# Altium schematic symbol library F1C200S.SCHLIB: 36 symbols
Pins are listed as number, name and electrical type; pins without a type are passive.

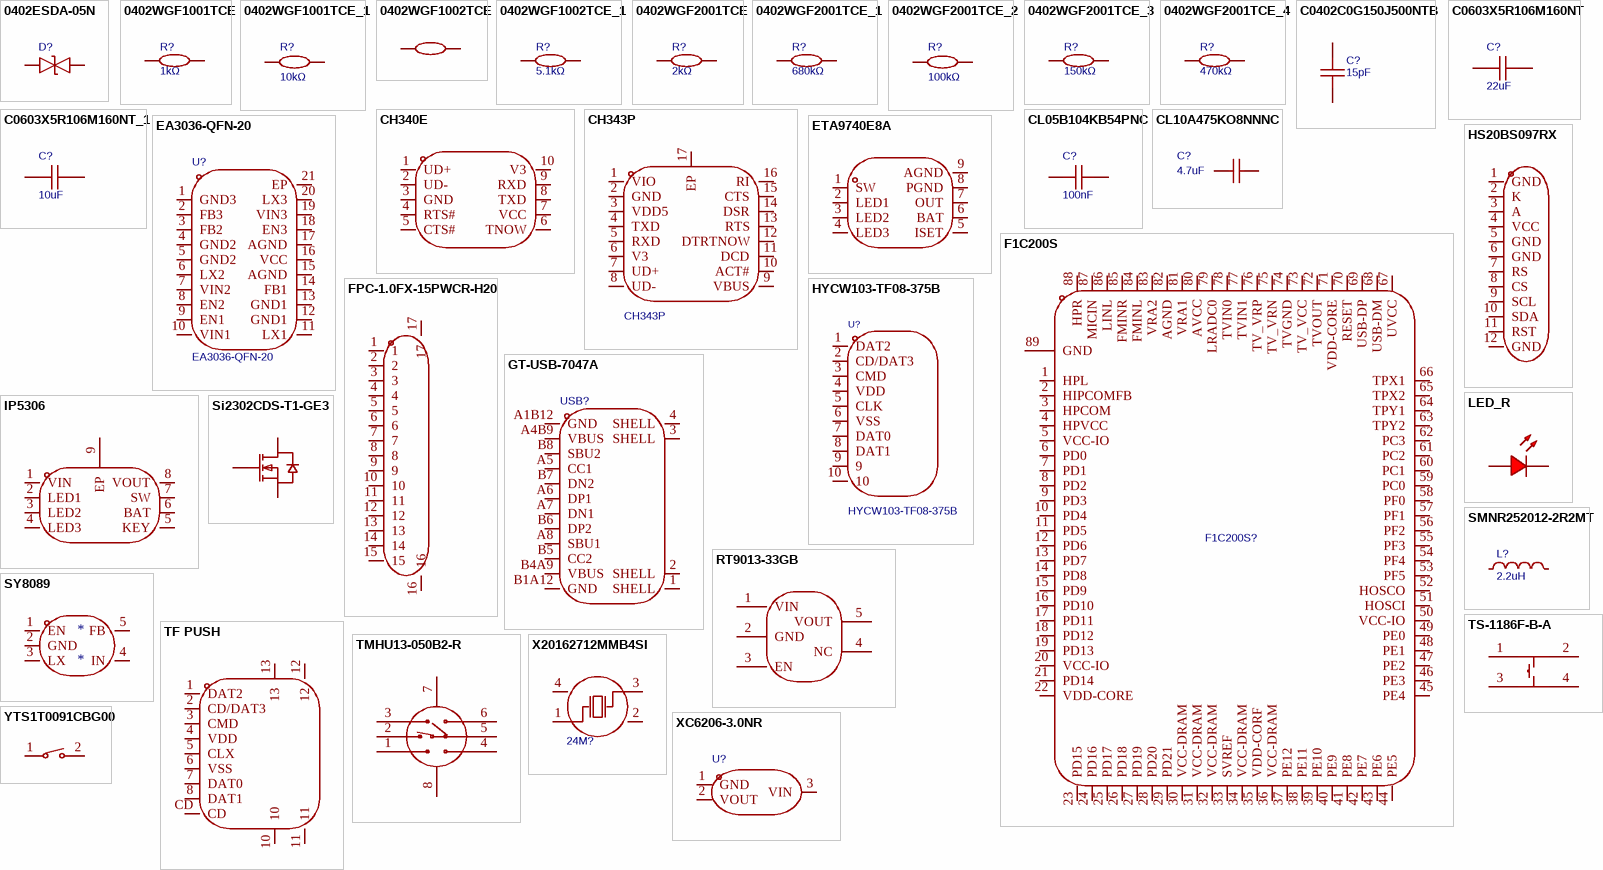
[diagram p0: symbols 0402ESDA-05N to YTS1T0091CBG00]

## 0402ESDA-05N
designator D?
极性:Bidirectional;反向关断电压（典型值）:5V;击穿电压（最小值）:-;箝位电压:50V;峰值脉冲电流（10/1000us）:-;; Manufacturer: BORN伯恩半导体; Symbol: 0402ESDA-05N; AddInBom: yes; ModelId: 62a80a189f1b46df8ba79817b730b378; ModelName: D0402_L1.0-W0.5-H0.5; ModelTransform: 39.37,19.685,0,180,0,0,-0.002,-0.0025,0; Voltage - Reverse Standoff (Typ): 5V; Voltage - Clamping (Max) @ Ipp: 50V; Device: 0402ESDA-05N; ConvertToPcb: yes; LCSC Part Name: 0402ESDA-05N; SupplierPart: C316049; ManufacturerPart: 0402ESDA-05N; Supplier Footprint: 0402; JLCPCB Part Class: 扩展库; Datasheet: https://atta.szlcsc.com/upload/public/pdf/source/20181026/C316049_37ABAC87650F175221BFB473159300DE.pdf; Supplier: LCSC; Polarity: Bidirectional; Voltage - Breakdown (Min): -; Current - Peak Pulse (10/1000μs): -; FootprintName: D0402
footprint D0402
pins: 1, 2

## 0402WGF1001TCE
designator R?, comment 1kΩ
电阻类型:厚膜电阻;阻值:1kΩ;精度:±1%;功率:62.5mW;温度系数:±100ppm/;最大工作电压:50V;工作温度范围:-55~+155;; Manufacturer: UNI-ROYAL(厚声); Symbol: 0402WGF1001TCE; AddInBom: yes; ModelId: 671aefced39d4c318694bba8bd8efd39; ModelName: R0402_L1.0-W0.5-H0.5; ModelTransform: 39.37,19.685,0,0,0,0,0,0.0005,0; Tolerance: ±1%; Power(Watts): 62.5mW; Overload Voltage (Max): 50V; Value: 1kΩ; Device: 0402WGF1001TCE; Temperature Coefficient: ±100ppm/; Operating Temperature Range: -55~+155; LCSC Part Name: 1kΩ ±1% 62.5mW; SupplierPart: C11702; ManufacturerPart: 0402WGF1001TCE; Supplier Footprint: 0402; JLCPCB Part Class: 基础库; Datasheet: https://atta.szlcsc.com/upload/public/pdf/source/20200306/C422600_1E6D84923E4A46A82E41ADD87F860B5C.pdf; Supplier: LCSC; ConvertToPcb: yes; FootprintName: R0402; Type: 厚膜电阻
footprint R0402
pins: 1, 2

## 0402WGF1001TCE_1
designator R?, comment 10kΩ
电阻类型:厚膜电阻;阻值:1kΩ;精度:±1%;功率:62.5mW;温度系数:±100ppm/;最大工作电压:50V;工作温度范围:-55~+155;; Manufacturer: UNI-ROYAL(厚声); Symbol: 0402WGF1001TCE; AddInBom: yes; ModelId: 671aefced39d4c318694bba8bd8efd39; ModelName: R0402_L1.0-W0.5-H0.5; ModelTransform: 39.37,19.685,0,0,0,0,0,0.0005,0; Tolerance: ±1%; Power(Watts): 62.5mW; Overload Voltage (Max): 50V; Value: 10kΩ; Device: 0402WGF1001TCE; Temperature Coefficient: ±100ppm/; Operating Temperature Range: -55~+155; LCSC Part Name: 1kΩ ±1% 62.5mW; ManufacturerPart: 0402WGF1001TCE; Supplier Footprint: 0402; JLCPCB Part Class: 基础库; Datasheet: https://atta.szlcsc.com/upload/public/pdf/source/20200306/C422600_1E6D84923E4A46A82E41ADD87F860B5C.pdf; Supplier: LCSC; ConvertToPcb: yes; FootprintName: R0402; Type: 厚膜电阻
footprint R0402
pins: 1, 2

## 0402WGF1002TCE
designator R?, comment 10kΩ  (value not drawn)
电阻类型:厚膜电阻;阻值:10kΩ;精度:±1%;功率:62.5mW;温度系数:±100ppm/;最大工作电压:50V;工作温度范围:-55~+155;; Manufacturer: UNI-ROYAL(厚声); Symbol: 0402WGF1002TCE; AddInBom: yes; ModelId: 671aefced39d4c318694bba8bd8efd39; ModelName: R0402_L1.0-W0.5-H0.5; ModelTransform: 39.37,19.685,0,0,0,0,0,0.0005,0; Tolerance: ±1%; Power(Watts): 62.5mW; Overload Voltage (Max): 50V; Value: 10kΩ; Device: 0402WGF1002TCE; Temperature Coefficient: ±100ppm/; Operating Temperature Range: -55~+155; LCSC Part Name: 10kΩ ±1% 62.5mW; SupplierPart: C25744; ManufacturerPart: 0402WGF1002TCE; Supplier Footprint: 0402; JLCPCB Part Class: 基础库; Datasheet: https://atta.szlcsc.com/upload/public/pdf/source/20200306/C422600_1E6D84923E4A46A82E41ADD87F860B5C.pdf; Supplier: LCSC; ConvertToPcb: yes; FootprintName: R0402; Type: 厚膜电阻
footprint R0402
pins: 1, 2

## 0402WGF1002TCE_1
designator R?, comment 5.1kΩ
电阻类型:厚膜电阻;阻值:10kΩ;精度:±1%;功率:62.5mW;温度系数:±100ppm/;最大工作电压:50V;工作温度范围:-55~+155;; Manufacturer: UNI-ROYAL(厚声); Symbol: 0402WGF1002TCE; AddInBom: yes; ModelId: 671aefced39d4c318694bba8bd8efd39; ModelName: R0402_L1.0-W0.5-H0.5; ModelTransform: 39.37,19.685,0,0,0,0,0,0.0005,0; Tolerance: ±1%; Power(Watts): 62.5mW; Overload Voltage (Max): 50V; Value: 5.1kΩ; Device: 0402WGF1002TCE; Temperature Coefficient: ±100ppm/; Operating Temperature Range: -55~+155; LCSC Part Name: 10kΩ ±1% 62.5mW; ManufacturerPart: 0402WGF1002TCE; Supplier Footprint: 0402; JLCPCB Part Class: 基础库; Datasheet: https://atta.szlcsc.com/upload/public/pdf/source/20200306/C422600_1E6D84923E4A46A82E41ADD87F860B5C.pdf; Supplier: LCSC; ConvertToPcb: yes; FootprintName: R0402; Type: 厚膜电阻
footprint R0402
pins: 1, 2

## 0402WGF2001TCE
designator R?, comment 2kΩ
电阻类型:厚膜电阻;阻值:2kΩ;精度:±1%;功率:1/16W;温度系数:±100ppm/;最大工作电压:50V;工作温度范围:-55~+155;; Manufacturer: UNI-ROYAL(厚声); Symbol: 0402WGF2001TCE; AddInBom: yes; ModelId: 671aefced39d4c318694bba8bd8efd39; ModelName: R0402_L1.0-W0.5-H0.5; ModelTransform: 39.37,19.685,0,0,0,0,0,0.0005,0; Tolerance: ±1%; Power(Watts): 1/16W; Overload Voltage (Max): 50V; Value: 2kΩ; Temperature Coefficient: ±100ppm/; Operating Temperature Range: -55~+155; Device: 0402WGF2001TCE; LCSC Part Name: 2kΩ ±1% 1/16W; SupplierPart: C4109; ManufacturerPart: 0402WGF2001TCE; Supplier Footprint: 0402; JLCPCB Part Class: 基础库; Datasheet: https://atta.szlcsc.com/upload/public/pdf/source/20200306/C422600_1E6D84923E4A46A82E41ADD87F860B5C.pdf; Supplier: LCSC; ConvertToPcb: yes; FootprintName: R0402; Type: 厚膜电阻
footprint R0402
pins: 1, 2

## 0402WGF2001TCE_1
designator R?, comment 680kΩ
电阻类型:厚膜电阻;阻值:2kΩ;精度:±1%;功率:1/16W;温度系数:±100ppm/;最大工作电压:50V;工作温度范围:-55~+155;; Manufacturer: UNI-ROYAL(厚声); Symbol: 0402WGF2001TCE; AddInBom: yes; ModelId: 671aefced39d4c318694bba8bd8efd39; ModelName: R0402_L1.0-W0.5-H0.5; ModelTransform: 39.37,19.685,0,0,0,0,0,0.0005,0; Tolerance: ±1%; Power(Watts): 1/16W; Overload Voltage (Max): 50V; Value: 680kΩ; Temperature Coefficient: ±100ppm/; Operating Temperature Range: -55~+155; Device: 0402WGF2001TCE; LCSC Part Name: 2kΩ ±1% 1/16W; ManufacturerPart: 0402WGF2001TCE; Supplier Footprint: 0402; JLCPCB Part Class: 基础库; Datasheet: https://atta.szlcsc.com/upload/public/pdf/source/20200306/C422600_1E6D84923E4A46A82E41ADD87F860B5C.pdf; Supplier: LCSC; ConvertToPcb: yes; FootprintName: R0402; Type: 厚膜电阻
footprint R0402
pins: 1, 2

## 0402WGF2001TCE_2
designator R?, comment 100kΩ
电阻类型:厚膜电阻;阻值:2kΩ;精度:±1%;功率:1/16W;温度系数:±100ppm/;最大工作电压:50V;工作温度范围:-55~+155;; Manufacturer: UNI-ROYAL(厚声); Symbol: 0402WGF2001TCE; AddInBom: yes; ModelId: 671aefced39d4c318694bba8bd8efd39; ModelName: R0402_L1.0-W0.5-H0.5; ModelTransform: 39.37,19.685,0,0,0,0,0,0.0005,0; Tolerance: ±1%; Power(Watts): 1/16W; Overload Voltage (Max): 50V; Value: 100kΩ; Temperature Coefficient: ±100ppm/; Operating Temperature Range: -55~+155; Device: 0402WGF2001TCE; LCSC Part Name: 2kΩ ±1% 1/16W; ManufacturerPart: 0402WGF2001TCE; Supplier Footprint: 0402; JLCPCB Part Class: 基础库; Datasheet: https://atta.szlcsc.com/upload/public/pdf/source/20200306/C422600_1E6D84923E4A46A82E41ADD87F860B5C.pdf; Supplier: LCSC; ConvertToPcb: yes; FootprintName: R0402; Type: 厚膜电阻
footprint R0402
pins: 1, 2

## 0402WGF2001TCE_3
designator R?, comment 150kΩ
电阻类型:厚膜电阻;阻值:2kΩ;精度:±1%;功率:1/16W;温度系数:±100ppm/;最大工作电压:50V;工作温度范围:-55~+155;; Manufacturer: UNI-ROYAL(厚声); Symbol: 0402WGF2001TCE; AddInBom: yes; ModelId: 671aefced39d4c318694bba8bd8efd39; ModelName: R0402_L1.0-W0.5-H0.5; ModelTransform: 39.37,19.685,0,0,0,0,0,0.0005,0; Tolerance: ±1%; Power(Watts): 1/16W; Overload Voltage (Max): 50V; Value: 150kΩ; Temperature Coefficient: ±100ppm/; Operating Temperature Range: -55~+155; Device: 0402WGF2001TCE; LCSC Part Name: 2kΩ ±1% 1/16W; ManufacturerPart: 0402WGF2001TCE; Supplier Footprint: 0402; JLCPCB Part Class: 基础库; Datasheet: https://atta.szlcsc.com/upload/public/pdf/source/20200306/C422600_1E6D84923E4A46A82E41ADD87F860B5C.pdf; Supplier: LCSC; ConvertToPcb: yes; FootprintName: R0402; Type: 厚膜电阻
footprint R0402
pins: 1, 2

## 0402WGF2001TCE_4
designator R?, comment 470kΩ
电阻类型:厚膜电阻;阻值:2kΩ;精度:±1%;功率:1/16W;温度系数:±100ppm/;最大工作电压:50V;工作温度范围:-55~+155;; Manufacturer: UNI-ROYAL(厚声); Symbol: 0402WGF2001TCE; AddInBom: yes; ModelId: 671aefced39d4c318694bba8bd8efd39; ModelName: R0402_L1.0-W0.5-H0.5; ModelTransform: 39.37,19.685,0,0,0,0,0,0.0005,0; Tolerance: ±1%; Power(Watts): 1/16W; Overload Voltage (Max): 50V; Value: 470kΩ; Temperature Coefficient: ±100ppm/; Operating Temperature Range: -55~+155; Device: 0402WGF2001TCE; LCSC Part Name: 2kΩ ±1% 1/16W; ManufacturerPart: 0402WGF2001TCE; Supplier Footprint: 0402; JLCPCB Part Class: 基础库; Datasheet: https://atta.szlcsc.com/upload/public/pdf/source/20200306/C422600_1E6D84923E4A46A82E41ADD87F860B5C.pdf; Supplier: LCSC; ConvertToPcb: yes; FootprintName: R0402; Type: 厚膜电阻
footprint R0402
pins: 1, 2

## C0402C0G150J500NTB
designator C?, comment 15pF
容值:15pF;精度:±5%;额定电压:50V;材质(温度系数):C0G;; Manufacturer: EYANG(宇阳科技); Symbol: C0402C0G150J500NTB; AddInBom: yes; ModelId: 36a51122f27c49738f86b3bfa98863e0; ModelName: C0402_L1.0-W0.5-H0.5; ModelTransform: 39.37,19.685,0,0,0,0,0,0,0; Tolerance: ±5%; Voltage Rated: 50V; Temperature Coefficient: C0G; Value: 15pF; Device: C0402C0G150J500NTB; LCSC Part Name: 15pF ±5% 50V; SupplierPart: C115610; ManufacturerPart: C0402C0G150J500NTB; Supplier Footprint: 0402; JLCPCB Part Class: 扩展库; Datasheet: https://atta.szlcsc.com/upload/public/pdf/source/20170616/1497588084732.pdf; Supplier: LCSC; ConvertToPcb: yes; FootprintName: C0402
footprint C0402
pins: 1, 2

## C0603X5R106M160NT
designator C?, comment 22uF
容值:10uF;精度:±20%;额定电压:16V;温度系数:X5R;; Manufacturer: SANYEAR(叁叶源); Symbol: C0603X5R106M160NT; AddInBom: yes; ModelId: ac125912035d415993ca9572d50418b1; ModelName: C0603_L1.6-W0.8-H0.8; ModelTransform: 62.992,31.496,0,0,0,0,0,0,0; Tolerance: ±20%; Voltage Rated: 16V; Temperature Coefficient: X5R; Value: 22uF; Device: C0603X5R106M160NT; LCSC Part Name: 10uF ±20% 16V; ManufacturerPart: C0603X5R106M160NT; Supplier Footprint: 0603; JLCPCB Part Class: 扩展库; Datasheet: https://atta.szlcsc.com/upload/public/pdf/source/20191209/C466781_7B1C97983691E173DFF63AE7A9C35A8A.pdf; Supplier: LCSC; ConvertToPcb: yes; FootprintName: C0603
footprint C0603
pins: 1, 2

## C0603X5R106M160NT_1
designator C?, comment 10uF
容值:10uF;精度:±20%;额定电压:16V;温度系数:X5R;; Manufacturer: SANYEAR(叁叶源); Symbol: C0603X5R106M160NT; AddInBom: yes; ModelId: ac125912035d415993ca9572d50418b1; ModelName: C0603_L1.6-W0.8-H0.8; ModelTransform: 62.992,31.496,0,0,0,0,0,0,0; Tolerance: ±20%; Voltage Rated: 16V; Temperature Coefficient: X5R; Value: 10uF; Device: C0603X5R106M160NT; LCSC Part Name: 10uF ±20% 16V; SupplierPart: C466781; ManufacturerPart: C0603X5R106M160NT; Supplier Footprint: 0603; JLCPCB Part Class: 扩展库; Datasheet: https://atta.szlcsc.com/upload/public/pdf/source/20191209/C466781_7B1C97983691E173DFF63AE7A9C35A8A.pdf; Supplier: LCSC; ConvertToPcb: yes; FootprintName: C0603
footprint C0603
pins: 1, 2

## CH340E
designator U??  (value not drawn)
Symbol: CH340E
pins: 1 UD+, 2 UD-, 3 GND, 4 RTS#, 5 CTS#, 6 TNOW, 7 VCC, 8 TXD, 9 RXD, 10 V3

## CH343P
designator U?
应用功能:-;接口协议:-;; Manufacturer: WCH(南京沁恒); AddInBom: yes; ModelId: bf3177fc8dab4136825cc9ae9b354cf2; ModelName: TQFN-16_L3.0-W3.0-P0.50-BL-EP1.7; ModelTransform: 118.8974,118.8974,0,0,0,0,0,0,0; Symbol: CH343P; Device: CH343P; Supplier: LCSC; Supplier Part: C2846043; Manufacturer Part: CH343P; JLCPCB Part Class: 扩展库; LCSC Part Name: CH343P; Supplier Footprint: TQFN-16-EP(3x3); Datasheet: https://atta.szlcsc.com/upload/public/pdf/source/20211010/C2846043_7FA705E1F14A2906F6A2AFA45FA28209.pdf; ConvertToPcb: yes; FootprintName: TQFN-16_L3.0-W3.0-P0.50-BL-EP1.7; Applications Function: -; Protocol: -
footprint TQFN-16_L3.0-W3.0-P0.50-BL-EP1.7
pins: 1 VIO, 2 GND, 3 VDD5, 4 TXD, 5 RXD, 6 V3, 7 UD+, 8 UD-, 9 VBUS, 10 ACT#, 11 DCD, 12 DTRTNOW, 13 RTS, 14 DSR, 15 CTS, 16 RI, 17 EP

## CL05B104KB54PNC
designator C?, comment 100nF
容值:100nF;精度:±10%;额定电压:50V;材质(温度系数):X7R;; Manufacturer: SAMSUNG(三星); Symbol: CL05B104KB54PNC; AddInBom: yes; ModelId: 36a51122f27c49738f86b3bfa98863e0; ModelName: C0402_L1.0-W0.5-H0.5; ModelTransform: 39.37,19.685,0,0,0,0,0,0,0; Tolerance: ±10%; Voltage Rated: 50V; Temperature Coefficient: X7R; Value: 100nF; Device: CL05B104KB54PNC; LCSC Part Name: 100nF ±10% 50V; SupplierPart: C307331; ManufacturerPart: CL05B104KB54PNC; Supplier Footprint: 0402; JLCPCB Part Class: 基础库; Datasheet: https://atta.szlcsc.com/upload/public/pdf/source/20181009/C307331_222F7C870FD3EA5F46F538B483443886.pdf; Supplier: LCSC; ConvertToPcb: yes; FootprintName: C0402
footprint C0402
pins: 1, 2

## CL10A475KO8NNNC
designator C?, comment 4.7uF
容值:4.7uF;精度:±10%;额定电压:16V;材质(温度系数):X5R;; Manufacturer: SAMSUNG(三星); Symbol: CL10A475KO8NNNC; AddInBom: yes; ModelId: ac125912035d415993ca9572d50418b1; ModelName: C0603_L1.6-W0.8-H0.8; ModelTransform: 62.992,31.496,0,0,0,0,0,0,0; Tolerance: ±10%; Voltage Rated: 16V; Temperature Coefficient: X5R; Value: 4.7uF; Device: CL10A475KO8NNNC; LCSC Part Name: 4.7uF ±10% 16V; SupplierPart: C19666; ManufacturerPart: CL10A475KO8NNNC; Supplier Footprint: 0603; JLCPCB Part Class: 基础库; Datasheet: https://atta.szlcsc.com/upload/public/pdf/source/20160103/1457707703134.pdf; Supplier: LCSC; ConvertToPcb: yes; FootprintName: C0603
footprint C0603
pins: 1, 2

## EA3036-QFN-20
designator U?
AddInBom: yes; ModelId: 7afabb44035b4b45b0eddd8c0a52ab65; ModelName: QFN-20_L3.0-W3.0-P0.40-BL-EP1.7; ModelTransform: 118.18874,118.18874,0,0,0,0,0,0,0; Symbol: EA3036-QFN-20; Device: EA3036-QFN-20; LCSC Part Name: EA3036-QFN-20; SupplierPart: C9900008976; ManufacturerPart: EA3036-QFN-20; Supplier Footprint: QFN-20_L3.0-W3.0-P0.40-BL-EP1.5; JLCPCB Part Class: 扩展库; Datasheet: https://atta.szlcsc.comnull; Supplier: LCSC; ConvertToPcb: yes; FootprintName: QFN-20_L3.0-W3.0-P0.40-BL-EP1.7
footprint QFN-20_L3.0-W3.0-P0.40-BL-EP1.7
pins: 1 GND3, 2 FB3, 3 FB2, 4 GND2, 5 GND2, 6 LX2, 7 VIN2, 8 EN2, 9 EN1, 10 VIN1, 11 LX1, 12 GND1, 13 GND1, 14 FB1, 15 AGND, 16 VCC, 17 AGND, 18 EN3, 19 VIN3, 20 LX3, 21 EP

## ETA9740E8A
designator U??  (value not drawn)
充电芯片; Symbol: ETA9740E8A
pins: 1 SW, 2 LED1, 3 LED2, 4 LED3, 5 ISET, 6 BAT, 7 OUT, 8 PGND, 9 AGND

## F1C200S
designator F1C200S?  (value not drawn)
Manufacturer: Allwinner(全志); AddInBom: yes; ModelId: 9fbb6eebc76e44f2957bc86852556e57; ModelName: QFN-88_L10.0-W10.0-H0.8-P0.40-BL-EP; ModelTransform: 393.7,393.7,0,0,0,0,0,0,0; Device: F1C200S; LCSC Part Name: F1C200S; SupplierPart: C2879851; ManufacturerPart: F1C200S; Supplier Footprint: QFN-88; JLCPCB Part Class: 扩展库; Datasheet: https://atta.szlcsc.com/upload/public/pdf/source/20211016/C2879851_80200E64F493B5C5B5C583D1EECFE2F1.pdf; Supplier: LCSC; ConvertToPcb: yes; SymbolName: F1C200S; FootprintName: QFN-88_L10.0-W10.0-P0.40-BL-EP6.75
footprint QFN-88_L10.0-W10.0-P0.40-BL-EP6.75
pins: 1 HPL, 2 HIPCOMFB, 3 HPCOM, 4 HPVCC, 5 VCC-IO, 6 PD0, 7 PD1, 8 PD2, 9 PD3, 10 PD4, 11 PD5, 12 PD6, 13 PD7, 14 PD8, 15 PD9, 16 PD10, 17 PD11, 18 PD12, 19 PD13, 20 VCC-IO, 21 PD14, 22 VDD-CORE, 23 PD15, 24 PD16, 25 PD17, 26 PD18, 27 PD19, 28 PD20, 29 PD21, 30 VCC-DRAM, 31 VCC-DRAM, 32 VCC-DRAM, 33 SVREF, 34 VCC-DRAM, 35 VDD-CORF, 36 VCC-DRAM, 37 PE12, 38 PE11, 39 PE10, 40 PE9, 41 PE8, 42 PE7, 43 PE6, 44 PE5, 45 PE4, 46 PE3, 47 PE2, 48 PE1, 49 PE0, 50 VCC-IO, 51 HOSCI, 52 HOSCO, 53 PF5, 54 PF4, 55 PF3, 56 PF2, 57 PF1, 58 PF0, 59 PC0, 60 PC1, 61 PC2, 62 PC3, 63 TPY2, 64 TPY1, 65 TPX2, 66 TPX1, 67 UVCC, 68 USB-DM, 69 USB-DP, 70 RESET, 71 VDD-CORE, 72 TVOUT, 73 TV_VCC, 74 TVGND, 75 TV_VRN, 76 TV_VRP, 77 TVIN1, 78 TVIN0, 79 LRADC0, 80 AVCC, 81 VRA1, 82 AGND, 83 VRA2, 84 FMINL, 85 FMINR, 86 LINL, 87 MICIN, 88 HPR, 89 GND

## FPC-1.0FX-15PWCR-H20
designator U??  (value not drawn)
15pin排线座; Symbol: FPC-1.0FX-15PWCR-H20
pins: 1, 2, 3, 4, 5, 6, 7, 8, 9, 10, 11, 12, 13, 14, 15, 16, 17

## GT-USB-7047A
designator USB?  (value not drawn)
连接器类型:-;标准:-;公母:-;触点数量:-;端口数量:-;安装方式:-;额定电流 - 电源:-;触头材质:-;触头镀层:-;工作温度范围:-;; Manufacturer: G-Switch(品赞); AddInBom: yes; ModelId: f05bd89a108a4254b1ccbb5f62555276; ModelName: USB-C-SMD_GT-USB-7047A; ModelTransform: 450.3928,309.0545,0,0,0,0,-0.001,-56.653,-31.496; Symbol: GT-USB-7047A; Device: GT-USB-7047A; LCSC Part Name: GT-USB-7047A; SupplierPart: C963216; ManufacturerPart: GT-USB-7047A; Supplier Footprint: SMD; JLCPCB Part Class: 扩展库; Datasheet: https://atta.szlcsc.com/upload/public/pdf/source/20201201/C963216_974A5FDF7B0C047E709C870F857B4C9A.pdf; Supplier: LCSC; ConvertToPcb: yes; FootprintName: USB-C-SMD_GT-USB-7047A; Connector Type: -; Standard: -; Gender: -; Number of Contacts: -; Number of Ports: -; Mounting Style: -; Current Rating - Power (Max): -; Contact Material: -; Contact Plating: -; Operating Temperature Range: -
footprint USB-C-SMD_GT-USB-7047A
pins: 1 SHELL, 2 SHELL, 3 SHELL, 4 SHELL, A1B12 GND, A4B9 VBUS, A5 CC1, A6 DP1, A7 DN1, A8 SBU1, B1A12 GND, B4A9 VBUS, B5 CC2, B6 DP2, B7 DN2, B8 SBU2

## HS20BS097RX
designator U??  (value not drawn)
Symbol: HS20BS097RX
pins: 1 GND, 2 K, 3 A, 4 VCC, 5 GND, 6 GND, 7 RS, 8 CS, 9 SCL, 10 SDA, 11 RST, 12 GND

## HYCW103-TF08-375B
designator U?
Manufacturer: 华宇创; AddInBom: yes; ModelId: 13b0dd9f3e6e48c1b8c3afea4e694ddf; ModelName: TF-SMD_TF-021B-H265; ModelTransform: 446.85,216.535,0,0,0,0,9.842,-13.781,0; Symbol: HYCW103-TF08-375B; Device: HYCW103-TF08-375B; Supplier: LCSC; Supplier Part: C2962028; Manufacturer Part: HYCW103-TF08-375B; JLCPCB Part Class: 扩展库; LCSC Part Name: TF 短体不带检测PIN 3.75H; Supplier Footprint: SMD; Datasheet: https://atta.szlcsc.com/upload/public/pdf/source/20220124/9E7CDE7482035FBDA912B82D68064FE5.pdf; ConvertToPcb: yes; FootprintName: TF-SMD_TF-021B-H265
footprint TF-SMD_TF-021B-H265
pins: 1 DAT2, 2 CD/DAT3, 3 CMD, 4 VDD, 5 CLK, 6 VSS, 7 DAT0, 8 DAT1, 9, 10

## IP5306
designator U??  (value not drawn)
充电模块; Symbol: IP5306
pins: 1 VIN, 2 LED1, 3 LED2, 4 LED3, 5 KEY, 6 BAT, 7 SW, 8 VOUT, 9 EP

## LED_R
designator LED?
发光颜色:红灯;; Symbol: LED_R; ConvertToPcb: yes; ModelId: ff479c6f784e45d5abe8f8ff531b4a70; ModelName: LED0402-RD_ORANGE; ModelTransform: 39.4,19.7,15.76,180,0,0,0,0,0; Device: LED_R; AddInBom: yes; Supplier Footprint: 0402; SupplierPart: C71911; JLCPCB Part Class: 扩展库; FootprintName: LED0402-RD_GREEN
footprint LED0402-RD_GREEN
pins: 1 C, 2 A

## RT9013-33GB
designator U?  (value not drawn)
输出类型:固定;输出极性:正;输出通道数:1;最大输入电压:5.5V;输出电压:3.3V;压差:400mV@(500mA);静态电流(地电流):-;输出电流:500mA;电源纹波抑制比(PRSS):50dB@(10kHz);噪声:-;特性:-;; Manufacturer: RICHTEK(台湾立锜); AddInBom: yes; ModelId: 0a2a1b8f50944f73965918ad6e5fe167; ModelName: SOT-23-5_L2.9-W1.6-H1.1-LS2.8-P0.95; ModelTransform: 114.173,109.636,0,180,0,0,-0.863,0.863,0; Output Type: 固定; Output Polarity: 正; Number of Outputs: 1; Maximum Input Voltage: 5.5V; Output Voltage: 3.3V; Symbol: RT9013-33GB; Device: RT9013-33GB; LCSC Part Name: Vin=5.5V Vout=3.3V 500mA 50dB@(10kHz); SupplierPart: C47773; ManufacturerPart: RT9013-33GB; Supplier Footprint: SOT-23-5; JLCPCB Part Class: 扩展库; Datasheet: https://atta.szlcsc.com/upload/public/pdf/source/20150504/1457707282459.pdf; Supplier: LCSC; ConvertToPcb: yes; FootprintName: SOT-23-5_L3.0-W1.7-P0.95-LS2.8-BR; Dropout Voltage: 400mV@(500mA); Quiescent Current (Ground Current): -; Output Current: 500mA; Power Supply Rejection Ratio (PRSS): 50dB@(10kHz); Noise: -; Feature: -
footprint SOT-23-5_L3.0-W1.7-P0.95-LS2.8-BR
pins: 1 VIN, 2 GND, 3 EN, 4 NC, 5 VOUT

## Si2302CDS-T1-GE3
designator Q??  (value not drawn)
Symbol: Si2302CDS-T1-GE3
pins: 1 G, 2 S, 3 D

## SMNR252012-2R2MT
designator L?, comment 2.2uH
电感值:2.2uH;精度:±20%;额定电流:1.15A;; Manufacturer: SXN(顺翔诺); Symbol: SMNR252012-2R2MT; AddInBom: yes; ModelId: ffff94f88356490faa401697093cf003; ModelName: IND-SMD_L2.5-W2.0-1; ModelTransform: 99.2124,79.527,0,180,0,0,0,0,0; Tolerance: ±20%; Rated Current: 1.15A; DC Resistance (DCR): 216mΩ; Device: SMNR252012-2R2MT; LCSC Part Name: 2.2uH ±20% 1.15A 216mΩ; SupplierPart: C363223; ManufacturerPart: SMNR252012-2R2MT; Supplier Footprint: SMD; JLCPCB Part Class: 扩展库; Datasheet: https://atta.szlcsc.com/upload/public/pdf/source/20210810/8C07D4BA256EC9B57FF3FBBF0FDAC34D.pdf; Supplier: LCSC; ConvertToPcb: yes; FootprintName: IND-SMD_L2.5-W2.0-1; Value: 2.2uH
footprint IND-SMD_L2.5-W2.0-1
pins: 1, 2

## SY8089
designator *
C479074_DC-DC电源芯片_SY8089A1AAC
pins: 1 EN, 2 GND, 3 LX, 4 IN, 5 FB

## TF PUSH
designator CARD??  (value not drawn)
tf卡座; Symbol: TF PUSH
pins: 1 DAT2, 2 CD/DAT3, 3 CMD, 4 VDD, 5 CLX, 6 VSS, 7 DAT0, 8 DAT1, 10, 11, 12, 13, CD

## TMHU13-050B2-R
designator SW??  (value not drawn)
五向按钮; Symbol: TMHU13-050B2-R
pins: 1, 2, 3, 4, 5, 6, 7, 8

## TS-1186F-B-A
designator SW??  (value not drawn)
侧边按钮; Symbol: TS-1186F-B-A
pins: 1, 2, 3, 4

## X20162712MMB4SI
designator 24M?  (value not drawn)
AddInBom: yes; ModelId: ff569852e08d42e6a0afc8f1b31cbda0; ModelName: CRYSTAL-SMD_4P-L2.0-W1.6-BL-A; ModelTransform: 78.74,62.992,0,0,0,0,0,0,0; Symbol: X20162712MMB4SI; Device: X20162712MMB4SI; LCSC Part Name: X20162712MMB4SI; SupplierPart: C9900020859; ManufacturerPart: X20162712MMB4SI; Supplier Footprint: 2016; JLCPCB Part Class: 扩展库; Datasheet: https://atta.szlcsc.comnull; Supplier: LCSC; ConvertToPcb: yes; FootprintName: CRYSTAL-SMD_4P-L2.0-W1.6-BL-A
footprint CRYSTAL-SMD_4P-L2.0-W1.6-BL-A
pins: 1 OSC1, 2 GND, 3 OSC2, 4 GND

## XC6206-3.0NR
designator U?  (value not drawn)
Manufacturer: HX(恒佳兴); AddInBom: yes; ModelId: 81c748039019403cb7932d7f29d10763; ModelName: SOT-23-3_L2.9-W1.4-P1.91-LS2.6-BR; ModelTransform: 86.614,106.299,0,0,0,0,0,0,0; Symbol: XC6206-3.0NR; Device: XC6206-3.0NR; LCSC Part Name: XC6206-3.0NR小体积; SupplierPart: C2984873; ManufacturerPart: XC6206-3.0NR; Supplier Footprint: SOT-23; Datasheet: https://atta.szlcsc.com/upload/public/pdf/source/20220328/86A37D0E6EE2F6DF94D50B2B86284E3B.pdf; Supplier: LCSC; ConvertToPcb: yes; FootprintName: SOT-23-3_L2.9-W1.4-P1.91-LS2.6-BR
footprint SOT-23-3_L2.9-W1.4-P1.91-LS2.6-BR
pins: 1 GND, 2 VOUT, 3 VIN

## YTS1T0091CBG00
designator U?  (value not drawn)
轻触开关  触点电流：50mA 额定电压(DC)：12V  电路结构：单刀单掷 安装方式：立贴 按钮形状：圆形按钮 按钮/盖帽颜色：黑色 作用力：180gf@±50gf 机械寿命：100000次 工作温度：-30~+80 4x3x2.5; Manufacturer: YIYUAN(怡远); AddInBom: yes; ModelId: edae6497cb804c2ba2c787d1b5f79afb; ModelName: SW-SMD_L4.0-W3.0-H2-LS5.0; ModelTransform: 196.85,118.11,0,0,0,0,0,0,0; Symbol: YTS1T0091CBG00; Device: YTS1T0091CBG00; LCSC Part Name: 正按小龟 3x4x2.5mm 两脚不带柱 180gf黑钮; SupplierPart: C5221273; ManufacturerPart: YTS1T0091CBG00; Supplier Footprint: SMD; Datasheet: https://atta.szlcsc.com/upload/public/pdf/source/20221031/A20D99D7D81D480435D658A9976123AC.pdf; Supplier: LCSC; ConvertToPcb: yes; FootprintName: SW-SMD_L4.0-W3.0-LS5.0
footprint SW-SMD_L4.0-W3.0-LS5.0
pins: 1, 2